# EAGLE library part MCP2515 (library ds_ic_peripherals)
Stand-Alone CAN Controller with SPI Interface
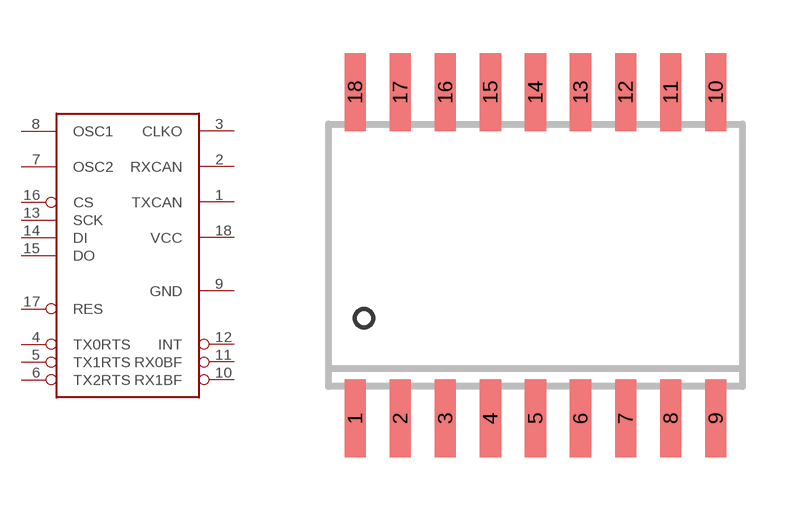
[diagram p37: symbol with the pads of SO18; footprint SO18]

Designator prefix MCP2512

## MCP2515  [SO18]
1  TXCAN
2  RXCAN
3  CLKO
4  TX0RTS
5  TX1RTS
6  TX2RTS
7  OSC2
8  OSC1
9  GND  pwr
10  RX1BF
11  RX0BF
12  INT
13  SCK
14  DI
15  DO
16  CS
17  RES
18  VCC  pwr

## Footprint SO18 (pad centres in mm)
smd 0.6 x 2.2: 1 -5.08,-4.6; 2 -3.81,-4.6; 3 -2.54,-4.6; 4 -1.27,-4.6; 5 0,-4.6; 6 1.27,-4.6; 7 2.54,-4.6; 8 3.81,-4.6; 9 5.08,-4.6; 10 5.08,4.6; 11 3.81,4.6; 12 2.54,4.6; 13 1.27,4.6; 14 0,4.6; 15 -1.27,4.6; 16 -2.54,4.6; 17 -3.81,4.6; 18 -5.08,4.6